# Altium footprint library MAX5725.PcbLib: 1 footprints
Each footprint in its own frame and in the unit in brackets; x right, y up, seen from the top. Pads: shape width x height; smd on the part's side, far side on the other; paste and mask are expansions set on the pad; w line width, h text height; cw(c..) or ccw(c..) is an arc to the next point about the centre after c.
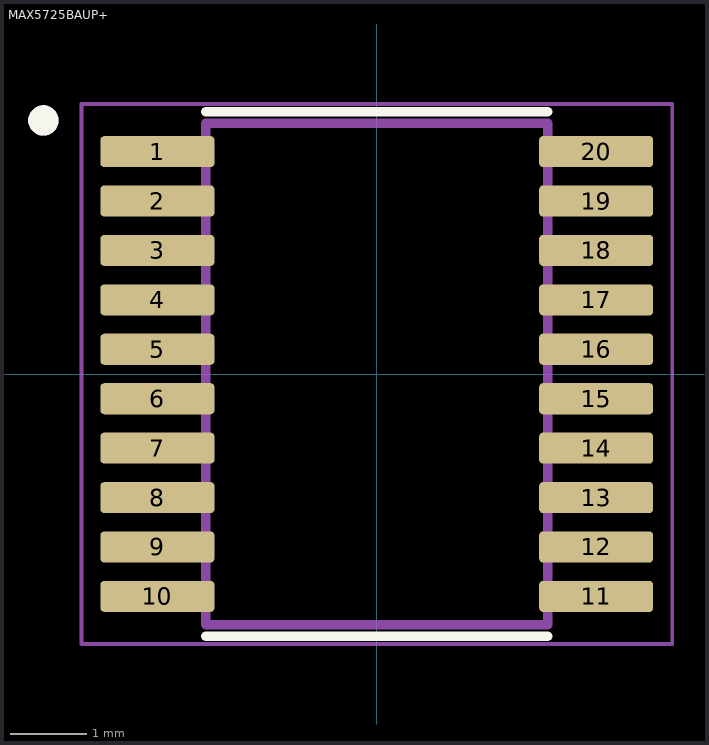
[diagram p0: the footprint, top view; thin cyan lines are the x and y axes]

## MAX5725BAUP+ [mm]
pads (20):
  rrect25% 1.5x0.41 smd: 1(-2.885,2.925) 2(-2.885,2.275) 3(-2.885,1.625) 4(-2.885,0.975) 5(-2.885,0.325) 6(-2.885,-0.325) 7(-2.885,-0.975) 8(-2.885,-1.625) 9(-2.885,-2.275) 10(-2.885,-2.925) 11(2.885,-2.925) 12(2.885,-2.275) 13(2.885,-1.625) 14(2.885,-0.975) 15(2.885,-0.325) 16(2.885,0.325) 17(2.885,0.975) 18(2.885,1.625) 19(2.885,2.275) 20(2.885,2.925)
Top Overlay:
  circle w0.2: c-4.385,3.335 r0.1
  lines w0.127: -2.25,-3.45 2.25,-3.45 ; -2.25,3.45 2.25,3.45
Mechanical 13:
  circle w0.2: c-4.385,3.335 r0.1
  lines w0.127: -2.25,-3.3 -2.25,3.3 2.25,3.3 2.25,-3.3 -2.25,-3.3
Mechanical 15:
  lines w0.05: -3.885,-3.55 -3.885,3.55 3.885,3.55 3.885,-3.55 -3.885,-3.55
3D body "21-0066J_20_MXM.step": height 1.09, standoff 0, extent -3.277,-3.302 3.277,3.302